# Altium schematic symbol library SCH - PASSIVES - CAPACITOR - EEEFK1C101P.SCHLIB: 1 symbol
Pins are listed as number, name and electrical type; pins without a type are passive.

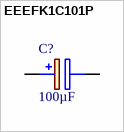
[diagram p0: symbol EEEFK1C101P]

## EEEFK1C101P
designator C?, comment 100µF
CAP ELCO 100uF 16V 20% F; Manufacturer: Panasonic; Manufacturer Part Number: EEE-FK1C101P; Dielectric: Electrolyte; ESR: 0.36; Type: Electrolytic; Category: elcos; Created: 2020-10-12_MGremer; Mounting Style: SMT; Package: F; Supplier 1: Mouser; Supplier Part Number 1: 667-EEE-FK1C101P; Tolerance: 20%; Value: 100uF; Voltage: 16V
footprint CAPAE660X610N
pins: 1 +, 2 -